# EAGLE library part TPS7A470X (library My_TI)
36-V, 1-A, 4-µVRMS, RF LDO Voltage Regulator. Input Voltage Range: +3 V to +36 V. Output Voltage Range: +1.4 V to +20.5 V
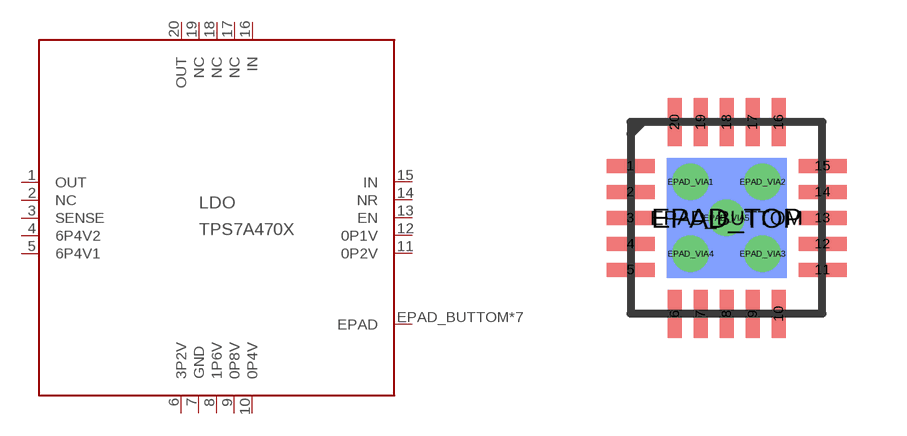
[diagram p9: symbol with the pads of QFN20; footprint QFN20]

Designator prefix LDO

## TPS7A470X  [QFN20]
1  OUT  pwr
2  NC
3  SENSE  in
4  6P4V2
5  6P4V1
6  3P2V
7  GND  pwr
8  1P6V
9  0P8V
10  0P4V
11  0P2V
12  0P1V
13  EN
14  NR
15  IN  pwr
16  IN  pwr
17  NC
18  NC
19  NC
20  OUT  pwr
EPAD_BUTTOM  EPAD
EPAD_TOP  EPAD
EPAD_VIA1  EPAD
EPAD_VIA2  EPAD
EPAD_VIA3  EPAD
EPAD_VIA4  EPAD
EPAD_VIA5  EPAD

## Footprint QFN20 (pad centres in mm)
QFN20 Auto generated by make-symbol-device-package-bsdl.ulp Rev. 43
smd 1.2 x 0.35: 1 -2.4,1.3; 2 -2.4,0.65; 3 -2.4,0; 4 -2.4,-0.65; 5 -2.4,-1.3; 11 2.4,-1.3; 12 2.4,-0.65; 13 2.4,0; 14 2.4,0.65; 15 2.4,1.3
smd 0.35 x 1.2: 6 -1.3,-2.4; 7 -0.65,-2.4; 8 0,-2.4; 9 0.65,-2.4; 10 1.3,-2.4; 16 1.3,2.4; 17 0.65,2.4; 18 0,2.4; 19 -0.65,2.4; 20 -1.3,2.4
smd 3 x 3 bottom: EPAD_BUTTOM 0,0
smd 3 x 3: EPAD_TOP 0,0
drill 0.4: EPAD_VIA1 -0.9,0.9; EPAD_VIA2 0.9,0.9; EPAD_VIA3 0.9,-0.9; EPAD_VIA4 -0.9,-0.9; EPAD_VIA5 0,0